# EAGLE library part SIM800L_V2 (library FansElectronics-Modul)
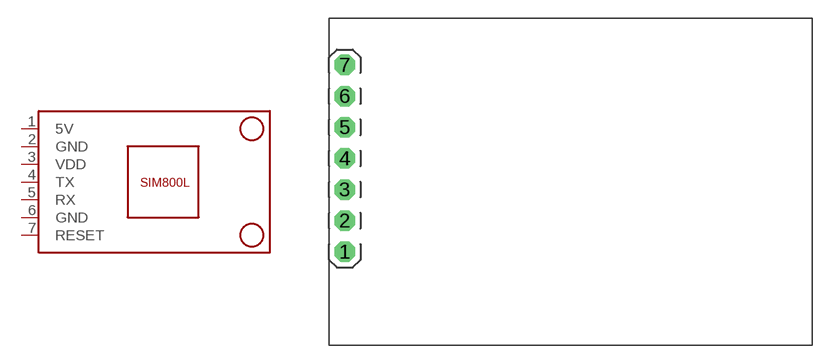
[diagram p1: symbol with the pads of SIM800L-V2; footprint SIM800L-V2]

Designator prefix -

## SIM800L_V2  [SIM800L-V2]
1  5V
2  GND
3  VDD
4  TX
5  RX
6  GND
7  RESET

## Footprint SIM800L-V2 (pad centres in mm)
drill 1.016 pad 1.676 octagon: 1 0,-7.62; 2 0,-5.08; 3 0,-2.54; 4 0,0; 5 0,2.54; 6 0,5.08; 7 0,7.62